# Altium schematic symbol library MC33886PVW.SchLib: 1 symbol
Pins are listed as number, name and electrical type; pins without a type are passive.

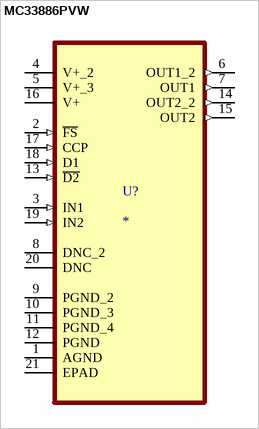
[diagram p0: symbol MC33886PVW]

## MC33886PVW
designator U?
H-Bridge; MF: {'manufacturer': u'NXP USA'}; MP: MC33886PVW; Package: None; Price: None; Availability: Unavailable; Value: *
footprint SOIC127P1420X340-21N
pins: 1 AGND, 2 ~{FS} (in), 3 IN1 (in), 4 V+_2 (power), 5 V+_3 (power), 6 OUT1_2 (out), 7 OUT1 (out), 8 DNC_2, 9 PGND_2, 10 PGND_3, 11 PGND_4, 12 PGND, 13 ~{D2} (in), 14 OUT2_2 (out), 15 OUT2 (out), 16 V+ (power), 17 CCP (in), 18 D1 (in), 19 IN2 (in), 20 DNC, 21 EPAD